# Altium schematic symbol library ts-1092s-b3d2-g.SchLib: 1 symbol
Pins are listed as number, name and electrical type; pins without a type are passive.

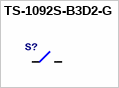
[diagram p0: symbol TS-1092S-B3D2-G]

## TS-1092S-B3D2-G
designator S?
SWITCH TACTILE SPST-NO
pins: 1, 2